# EAGLE library part UCC27524_GATE-DRIVER_DUAL_LOW-SIDE_5A (library PiB)
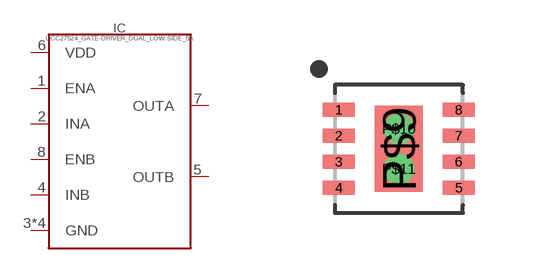
[diagram p10: symbol with the pads of WDFN_EXPOSED_PAD; footprint WDFN_EXPOSED_PAD]

Designator prefix IC

## UCC27524_GATE-DRIVER_DUAL_LOW-SIDE_5A_LOW-SIDE_GATE-DVR_5A (DATASHEET: http://www.ti.com/lit/ds/symlink/ucc27524.pdf; DIST: Digikey; DISTLINK: https://www.digikey.com/products/en?keywords=296-41042-1-ND; DISTPN: 296-41042-1-ND; MFR: Texas Instruments; MPN: UCC27524DSDR; VALUE: UCC27524DSDR)  [WDFN_EXPOSED_PAD]
1  ENA  pas
2  INA  pas
3  GND  pas
4  INB  pas
5  OUTB  pas
6  VDD  pas
7  OUTA  pas
8  ENB  pas
P$9  GND  pas
P$10  GND  pas
P$11  GND  pas

## Footprint WDFN_EXPOSED_PAD (pad centres in mm)
smd 0.8 x 0.35: 1 -1.5,0.975; 2 -1.5,0.325; 3 -1.5,-0.325; 4 -1.5,-0.975; 5 1.5,-0.975; 6 1.5,-0.325; 7 1.5,0.325; 8 1.5,0.975
smd 1.2 x 2.15: P$9 0,0
drill 0.254 pad 0.508: P$10 0,0.5; P$11 0,-0.5